# Altium schematic symbol library AQAC_1.SCHLIB: 34 symbols
Pins are listed as number, name and electrical type; pins without a type are passive.

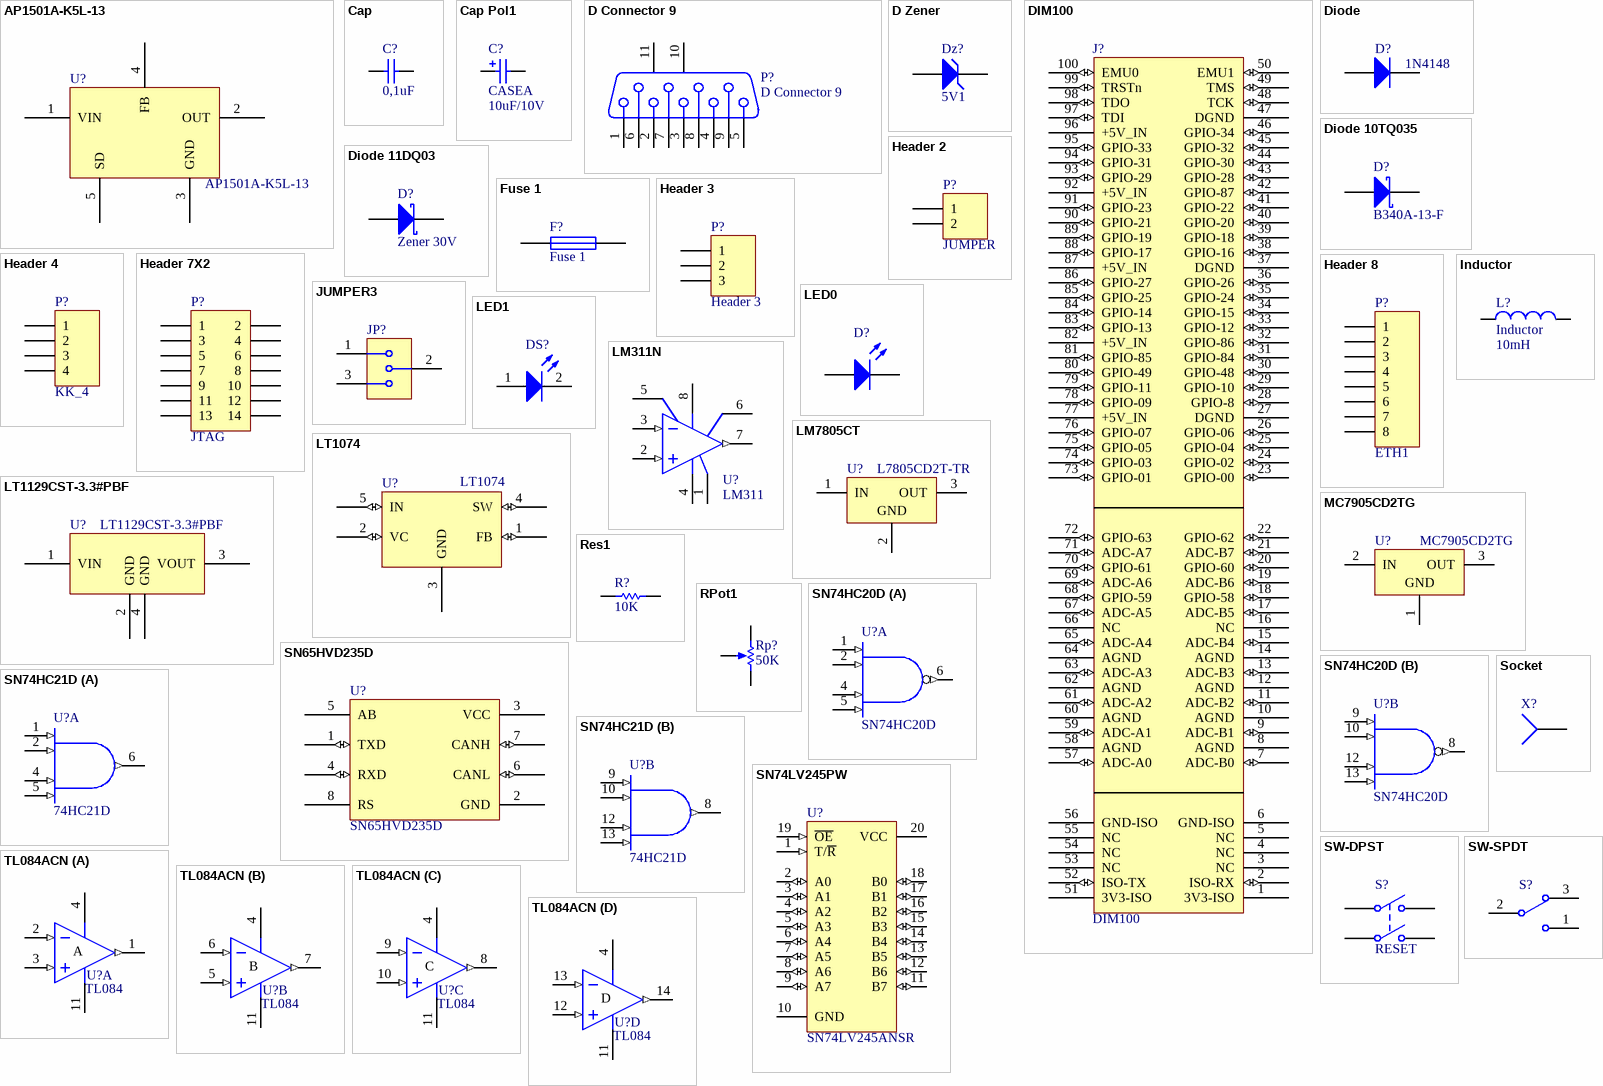
[diagram p0: symbols AP1501A-K5L-13 to TL084ACN]

## AP1501A-K5L-13
designator U?
IC CONV DC-DC 5A ADJ  TO263-5L
footprint TO263-5L
pins: 1 VIN (power), 2 OUT (power), 3 GND (power), 4 FB (power), 5 SD (power)

## Cap
designator C?  value 0,1uF  (hidden comment: Cap)
Capacitor; Published: 8-Jun-2000; LatestRevisionDate: 17-Jul-2002; LatestRevisionNote: Re-released for DXP Platform.; PackageReference: RAD-0.3; Publisher: Altium Limited
footprint RAD-0.3 (Capacitor; 2 Leads)
footprint VP32-3.2 (Capacitor, Ceramic, Thru-Hole, Dipped Radial; Body 5.1 x 3.2 mm (WxT) Pin Spacing 2.54 mm (typ))
footprint VP45-3.2 (Capacitor, Ceramic, Thru-Hole, Dipped Radial; Body 7.8 x 3.2 mm (WxT) Pin Spacing 5.08 mm (typ))
simulation model CAP (Capacitor)
signal-integrity model Cap
footprint RAD-0.1 (Indicating Instrument; 2 Leads)
footprint 0805_W
pins: 1, 2

## Cap Pol1
designator C?, comment CASEA  value 10uF/10V
Polarized Capacitor (Radial); Published: 8-Jun-2000; Revision: July-2002: Re-released for DXP Platform.; Publisher: Altium Limited
simulation model CAP (Capacitor)
signal-integrity model Cap Pol
footprint CASEA
pins: 1, 2

## D Connector 9
designator P?
Receptacle Assembly, 9 Position, Right Angle; PackageDocument: O; Positions: 9; Published: 15-Jun-2001; LatestRevisionDate: 17-Jul-2002; LatestRevisionNote: Re-released for DXP Platform.; DatasheetDocument: 1-Sep-1999; PackageReference: 788750; Publisher: Altium Limited; Orientation: Right Angle; Gender: Receptacle
footprint DSUB1.385-2H9 (Connector; D Subminiature; 9 Position; Right Angle; Pitch 1.385 mm)
signal-integrity model Connector
pins: 1, 2, 3, 4, 5, 6, 7, 8, 9, 10 MH1, 11 MH2

## D Zener
designator Dz?, comment 5V1
Zener Diode; Manufacturer: Generic Components; Class: Discrete; SubClass: Diode - Zener; Published: 08/06/2000; Publisher: Altium Hobart Technology Centre
footprint Diode
simulation model ZENER (Diode)
signal-integrity model D Zener
footprint MINIMELF (Metal Electrode Face (MELF) Diode; Body 3.5 x 1.5 mm (LxDia))
pins: 1 A, 2 K

## DIM100
designator J?
DIMM 1.27MM PITCH 100 CKTS MULTI KEY
footprint DIM_200
pins: 1 3V3-ISO (power), 2 ISO-RX (io), 3 NC, 4 NC, 5 NC, 6 GND-ISO (power), 7 ADC-B0 (io), 8 AGND (power), 9 ADC-B1 (io), 10 AGND (power), 11 ADC-B2 (io), 12 AGND (power), 13 ADC-B3 (io), 14 AGND (power), 15 ADC-B4 (io), 16 NC, 17 ADC-B5 (io), 18 GPIO-58 (io), 19 ADC-B6 (io), 20 GPIO-60 (io), 21 ADC-B7 (io), 22 GPIO-62 (io), 23 GPIO-00 (io), 24 GPIO-02 (io), 25 GPIO-04 (io), 26 GPIO-06 (io), 27 DGND (power), 28 GPIO-8 (io), 29 GPIO-10 (io), 30 GPIO-48 (io), 31 GPIO-84 (io), 32 GPIO-86 (io), 33 GPIO-12 (io), 34 GPIO-15 (io), 35 GPIO-24 (io), 36 GPIO-26 (io), 37 DGND (power), 38 GPIO-16 (io), 39 GPIO-18 (io), 40 GPIO-20 (io), 41 GPIO-22 (io), 42 GPIO-87 (io), 43 GPIO-28 (io), 44 GPIO-30 (io), 45 GPIO-32 (io), 46 GPIO-34 (io), 47 DGND (power), 48 TCK (io), 49 TMS (io), 50 EMU1 (io), 51 3V3-ISO (power), 52 ISO-TX (io), 53 NC, 54 NC, 55 NC, 56 GND-ISO (power), 57 ADC-A0 (io), 58 AGND (power), 59 ADC-A1 (io), 60 AGND (power), 61 ADC-A2 (io), 62 AGND (power), 63 ADC-A3 (io), 64 AGND (power), 65 ADC-A4 (io), 66 NC, 67 ADC-A5 (io), 68 GPIO-59 (io), 69 ADC-A6 (io), 70 GPIO-61 (io), 71 ADC-A7 (io), 72 GPIO-63 (io), 73 GPIO-01 (io), 74 GPIO-03 (io), 75 GPIO-05 (io), 76 GPIO-07 (io), 77 +5V_IN (power), 78 GPIO-09 (io), 79 GPIO-11 (io), 80 GPIO-49 (io), 81 GPIO-85 (io), 82 +5V_IN (power), 83 GPIO-13 (io), 84 GPIO-14 (io), 85 GPIO-25 (io), 86 GPIO-27 (io), 87 +5V_IN (power), 88 GPIO-17 (io), 89 GPIO-19 (io), 90 GPIO-21 (io), 91 GPIO-23 (io), 92 +5V_IN (power), 93 GPIO-29 (io), 94 GPIO-31 (io), 95 GPIO-33 (io), 96 +5V_IN (power), 97 TDI (io), 98 TDO (io), 99 TRSTn (io), 100 EMU0 (io)

## Diode
designator D?, comment 1N4148
Default Diode; Manufacturer: Generic Components; Class: Discrete; SubClass: Diode - Switching; Published: 08/06/2000; Publisher: Altium Hobart Technology Centre
footprint Diode (DO-214AB)
simulation model DIODE (Diode)
signal-integrity model Diode
footprint SOD323 (SOD-323/SC-76; 2 Leads; Body 1.7 x 1.3 mm, (LxW))
footprint Diode
pins: 1 A, 2 K

## Diode 10TQ035
designator D?, comment B340A-13-F
Schottky Rectifier; Note: Terminal 2 is the TAB and is electrically connected to the cathode; Published: 8-Jun-2000; LatestRevisionDate: 17-Jul-2002; LatestRevisionNote: Re-released for DXP Platform.; DatasheetDocument: PD-2.057B; PackageDocument: Feb-1998; PackageReference: TO-220AC; Publisher: Altium Limited; ComponentLink1Description: Manufacturer Link; ComponentLink1URL: http://www.irf.com/; ComponentLink2Description: Datasheet; ComponentLink2URL: http://www.irf.com/product-info/datasheets/data/10tq.pdf
footprint TO-220AC (TO, Thru-Hole, Vertical, Heatsink Mounted; 3 In-Line Leads (1 Absent); Pitch 2.54 mm)
simulation model 10TQ035 (DIODE)
footprint SMB
pins: 1 K, 2 A

## Diode 11DQ03
designator D?, comment Zener 30V
Schottky Rectifier; Published: 8-Jun-2000; LatestRevisionDate: 17-Jul-2002; LatestRevisionNote: Re-released for DXP Platform.; DatasheetVersion: Dec-1997; PackageReference: DO-204AL; Publisher: Altium Limited; Code_JEDEC: DO-204-AL; ComponentLink1Description: Manufacturer Link; ComponentLink1URL: http://www.irf.com/; ComponentLink2Description: Datasheet; ComponentLink2URL: http://www.irf.com/product-info/datasheets/data/11dq03.pdf
footprint DIO10.46-5.3x2.8 (Diode, Axial; Body 5.2 x 2.7 mm (LxDia. max), Lead Dia. 0.86 mm (max))
simulation model 11DQ03 (DIODE)
pins: 1 A, 2 K

## Fuse 1
designator F?
Fuse; Published: 8-Jun-2000; LatestRevisionDate: 17-Jul-2002; LatestRevisionNote: Re-released for DXP Platform.; PackageReference: PIN-W2/E2.8; Publisher: Altium Limited
footprint PIN-W2/E2.8 (Fuse; 2 Leads)
simulation model FUSE (Spice Subcircuit)
pins: 1, 2

## Header 2
designator P?, comment JUMPER
Header, 2-Pin; LatestRevisionDate: 17-Jul-2002; LatestRevisionNote: Re-released for DXP Platform.; Publisher: Altium Limited
footprint HDR1X2 (Connector; Header; 2 Position)
signal-integrity model Connector
pins: 1, 2

## Header 3
designator P?
Header, 3-Pin; LatestRevisionDate: 17-Jul-2002; LatestRevisionNote: Re-released for DXP Platform.; Publisher: Altium Limited
footprint HDR1X3 (Connector; Header; 3 Position)
signal-integrity model Connector
pins: 1, 2, 3

## Header 4
designator P?, comment KK_4
Header, 4-Pin; LatestRevisionDate: 17-Jul-2002; LatestRevisionNote: Re-released for DXP Platform.; Publisher: Altium Limited
footprint HDR1X4 (Connector; Header; 4 Position)
signal-integrity model Connector
footprint KK-4
pins: 1, 2, 3, 4

## Header 7X2
designator P?, comment JTAG
Header, 7-Pin, Dual row; LatestRevisionDate: 17-Jul-2002; LatestRevisionNote: Re-released for DXP Platform.; Publisher: Altium Limited
footprint HDR2X7 (Connector; Header; 7x2 Position)
signal-integrity model Connector
pins: 1, 2, 3, 4, 5, 6, 7, 8, 9, 10, 11, 12, 13, 14

## Header 8
designator P?, comment ETH1
Header, 8-Pin; LatestRevisionDate: 17-Jul-2002; LatestRevisionNote: Re-released for DXP Platform.; Publisher: Altium Limited
footprint HDR1X8 (Connector; Header; 8 Position)
signal-integrity model Connector
footprint ETHERNET_SINGLE
pins: 1, 2, 3, 4, 5, 6, 7, 8

## Inductor
designator L?  value 10mH
Code_IEC: 1005; Published: 8-Jun-2000; LatestRevisionDate: 29-May-2009; LatestRevisionNote: IPC-7351 Footprint Added.; PackageReference: 0402-A; Publisher: Altium Limited; PackageDescription: Chip Inductor; Code_JEITA: 0402
footprint INDC1005AL (Chip Inductor, Body 1.0x0.5mm, IPC High Density)
footprint INDC1608L (Chip Inductor, Body 1.6x0.8mm, IPC High Density)
footprint INDC2012L (Chip Inductor, Body 2.0x1.2mm, IPC High Density)
footprint INDC0603L (Chip Inductor, Body 0.6x0.3mm, IPC High Density)
footprint INDC3216AL (Chip Inductor, Body 3.2x1.6mm, IPC High Density)
footprint INDC4532L (Chip Inductor, Body 4.5x3.2mm, IPC High Density)
simulation model INDUCTOR (Inductor)
signal-integrity model Inductor
pins: 1, 2

## JUMPER3
designator JP?
Conector 3 pinos
footprint PCB JUMPER3 (PCB JUMPER 3 pinos)
footprint HDR1X3 (Connector; Header; 3 Position)
pins: 1 IN1, 2 IN3, 3 IN2

## LED0
designator D?  (value not drawn)
Typical INFRARED GaAs LED; Published: 8-Jun-2000; LatestRevisionDate: 08-Jul-2005; LatestRevisionNote: Mech Layer 1 removed.; PackageReference: LED-0; Publisher: Altium Limited
footprint LED-0 (Typical INFRARED GaAs LED; 2 Leads)
simulation model LED0 (Diode)
footprint LED_0805
pins: 1 A, 2 K

## LED1
designator DS?
Typical RED GaAs LED; Manufacturer: Generic Components; Class: Optoelectronic; Published: 08/06/2000; Publisher: Altium Hobart Technology Centre; SubClass: LED
footprint Led
simulation model LED1 (Diode)
footprint LED_0805
pins: 1 A, 2 K

## LM311N
designator U?, comment LM311
Voltage Comparator; Manufacturer: National Semiconductor; Class: Analog; Published: 15/04/2002; Publisher: Altium Hobart Technology Centre; SubClass: Comparator
footprint DIP-8
pins: 1 GND (power), 2 IN+ (in), 3 IN- (in), 4 V- (power), 5 BAL, 6 BAL/STB, 7 OUT (out), 8 V+ (power)

## LM7805CT
designator U?, comment L7805CD2T-TR
Series 3-Terminal Positive Regulator; PackageDocument: 1995; Note: Tab is connected to GND; Published: 15-Apr-2002; DatasheetDocument: May-1999; PackageReference: T03B; Publisher: Altium Limited; ComponentLink1Description: Manufacturer Link; ComponentLink1URL: http://www.national.com/; ComponentLink2Description: Datasheet; ComponentLink2URL: http://www.national.com/ds.cgi/LM/LM7512C.pdf; ComponentLink3Description: URL Link1; ComponentLink3URL: http://www.national.com/pf/LM/LM7805C.html
footprint T03B (TO, Thru-Hole, Vertical, Heatsink Mounted; 3 In-Line Leads; Pitch 2.54 mm)
footprint TO254P1510-3_4M (D2-PAK, 4-Leads, Body 8.8x10.4mm, Pitch 2.54mm, Lead Span 15.1mm, IPC Low Density)
pins: 1 IN (power), 2 GND (power), 3 OUT (power)

## LT1074
designator U?
Regulador Chaveado Step-Down LT1074HVCT; Fabricante: LINEAR
footprint LT1074
footprint LT1074_I
footprint LT1074CT#PBF
pins: 1 FB (io), 2 VC (io), 3 GND (power), 4 SW (io), 5 IN (io)

## LT1129CST-3.3#PBF
designator U?
IC LDO REG W/SD 3.3V SOT223-3
footprint SOT223
pins: 1 VIN (power), 2 GND (power), 3 VOUT (power), 4 GND (power)

## MC7905CD2TG
designator U?
IC REG NEG VOLT 1A 5V D2PAK
footprint TO254P1510-3_4M (D2-PAK, 4-Leads, Body 8.8x10.4mm, Pitch 2.54mm, Lead Span 15.1mm, IPC Low Density)
pins: 1 GND (power), 2 IN (power), 3 OUT (power)

## Res1
designator R?  value 10K
Resistor; Manufacturer: Generic Components; Class: Passive; Published: 08/06/2000; Publisher: Altium Hobart Technology Centre; SubClass: Resistor
footprint AXIAL-0.3
simulation model RESISTOR (Resistor)
signal-integrity model Res1
footprint 0805_W
pins: 1, 2

## RPot1
designator Rp?  value 50K
Potenciometro; Manufacturer: Generic Components; Class: Passive; SubClass: Potentiometer; Set Position: 0.5; Published: 08/06/2000; Publisher: Altium Hobart Technology Centre
footprint VR5 (Potenciometro)
pins: 1 TOP, 2 TAP, 3 BOT

## SN65HVD235D
designator U?
296-15229-5-ND
footprint SOP8_B3.9
pins: 1 TXD (io), 2 GND (power), 3 VCC (power), 4 RXD (io), 5 AB (power), 6 CANL (io), 7 CANH (io), 8 RS (power)

## SN74HC20D
designator U?
Dual 4-Input Positive-NAND Gate; Note: Pins 3 and 11 are not connected and not drawn; Published: 8-Jun-2000; LatestRevisionDate: 13-Apr-2006; LatestRevisionNote: IPC-7351 Footprint Added.; DatasheetVersion: May-1997; PackageVersion: Jan-1998; PackageReference: D014; Publisher: Altium Limited; PackageDescription: 14-Pin Small Outline Integrated Circuit 1.27 mm Pitch; Code_IPC: SOIC127P600-14; ComponentLink1Description: Manufacturer Link; ComponentLink1URL: http://www.ti.com/; ComponentLink2Description: Datasheet; ComponentLink2URL: http://www-s.ti.com/sc/ds/sn74hc20.pdf
footprint D014_N (SOIC, 14-Leads, Body 8.7x3.9mm, Pitch 1.27mm, IPC Medium Density)
footprint D014_L (SOIC, 14-Leads, Body 8.7x3.9mm, Pitch 1.27mm, IPC High Density)
footprint D014_M (SOIC, 14-Leads, Body 8.7x3.9mm, Pitch 1.27mm, IPC Low Density)
3D model D014 (14-Pin Small Outline Integrated Circuit 1.27 mm Pitch)
signal-integrity model SN74HC20D
footprint SOP14_B3.9
pins on every part: 7 GND (power) hidden to GND, 14 VCC (power) hidden to VCC
part A pins: 1 A (in), 2 B (in), 4 C (in), 5 D (in), 6 Y (out)
part B pins: 8 Y (out), 9 A (in), 10 B (in), 12 C (in), 13 D (in)

## SN74HC21D
designator U?, comment 74HC21D
Dual 4-Input Positive-AND Gate; Note: Pins 3 and 11 are not connected and not drawn; Published: 8-Jun-2000; LatestRevisionDate: 13-Apr-2006; LatestRevisionNote: IPC-7351 Footprint Added.; DatasheetVersion: May-1997; PackageVersion: Jan-1998; PackageReference: D014; Publisher: Altium Limited; PackageDescription: 14-Pin Small Outline Integrated Circuit 1.27 mm Pitch; Code_IPC: SOIC127P600-14; ComponentLink1Description: Manufacturer Link; ComponentLink1URL: http://www.ti.com/; ComponentLink2Description: Datasheet; ComponentLink2URL: http://www-s.ti.com/sc/ds/SN74HC21.pdf
footprint D014_N (SOIC, 14-Leads, Body 8.7x3.9mm, Pitch 1.27mm, IPC Medium Density)
footprint D014_L (SOIC, 14-Leads, Body 8.7x3.9mm, Pitch 1.27mm, IPC High Density)
footprint D014_M (SOIC, 14-Leads, Body 8.7x3.9mm, Pitch 1.27mm, IPC Low Density)
3D model D014 (14-Pin Small Outline Integrated Circuit 1.27 mm Pitch)
signal-integrity model SN74HC21D
footprint SOP14_B3.9
pins on every part: 7 GND (power) hidden to GND, 14 VCC (power) hidden to VCC
part A pins: 1 A (in), 2 B (in), 4 C (in), 5 D (in), 6 Y (out)
part B pins: 8 Y (out), 9 A (in), 10 B (in), 12 C (in), 13 D (in)

## SN74LV245PW
designator U?, comment SN74LV245ANSR
Octal Bus Transceiver with 3-State Outputs; Published: 8-Jun-2000; LatestRevisionDate: 04-Mar-2005; LatestRevisionNote: Stylized 3D Model Added.; DatasheetVersion: Apr-1996; PackageVersion: Feb-1999; PackageReference: PW020; Publisher: Altium Limited; PackageDescription: Shrink Small Outline; 20 Leads; Body Width 4.4 mm; Pitch 0.65 mm; ComponentLink1Description: Manufacturer Link; ComponentLink1URL: http://www.ti.com/; ComponentLink2Description: Datasheet; ComponentLink2URL: http://www-s.ti.com/sc/ds/sn74lv245.pdf
footprint PW020 (Shrink Small Outline; 20 Leads; Body Width 4.4 mm; Pitch 0.65 mm)
3D model PW020 (Shrink Small Outline; 20 Leads; Body Width 4.4 mm; Pitch 0.65 mm)
signal-integrity model SN74LV245PW
footprint SN74LV245ANSR
pins: 1 T/~{R} (in), 2 A0 (io), 3 A1 (io), 4 A2 (io), 5 A3 (io), 6 A4 (io), 7 A5 (io), 8 A6 (io), 9 A7 (io), 10 GND (power), 11 B7 (io), 12 B6 (io), 13 B5 (io), 14 B4 (io), 15 B3 (io), 16 B2 (io), 17 B1 (io), 18 B0 (io), 19 ~{OE} (in), 20 VCC (power)

## Socket
designator X?
Socket; Manufacturer: Generic Components; Class: Connector
footprint Socket
signal-integrity model Connector
pins: 1

## SW-DPST
designator S?, comment RESET
Double-Pole, Single-Throw Switch; Published: 24-Mar-1999; LatestRevisionDate: 17-Jul-2002; LatestRevisionNote: Re-released for DXP Platform.; PackageReference: DPST-4; Publisher: Altium Limited
footprint DPST-4 (Double-Pole, Single-Throw Switch; 4 Leads)
footprint CHAVE_PB
pins: 1 COMMON1, 2 NO1, 3 COMMON2, 4 NO2

## SW-SPDT
designator S?
SPDT Subminiature Toggle Switch, Right Angle Mounting, Vertical Actuation; Published: 24-Mar-1999; LatestRevisionDate: 17-Dec-2003; LatestRevisionNote: Schematic revised, PCB Footprint replaced.; DatasheetVersion: 05-Dec-2000; PackageReference: TL36WW15050; Publisher: Altium Limited; ComponentLink1Description: Manufacturer Link; ComponentLink1URL: http://www.apem.com
footprint TL36WW15050 (SPDT Subminiature Toggle Switch, Right Angle Mounting, Vertical Actuation)
footprint MHS123K
pins: 1, 2, 3

## TL084ACN
designator U?, comment TL084
General-Purpose J-FET Quad Operational Amplifier; Manufacturer: ST-Microelectronics; Published: 24/08/2001; Publisher: Altium Hobart Technology Centre; Class: Amplifier; SubClass: Operational Amplifier
footprint DIP-14
simulation model TL084 (SUBCKT)
footprint SOP14_B3.9
pins on every part: 4 V+ (power), 11 V- (power)
part A pins: 1 OUT (out), 2 IN- (in), 3 IN+ (in)
part B pins: 5 IN+ (in), 6 IN- (in), 7 OUT (out)
part C pins: 8 OUT (out), 9 IN- (in), 10 IN+ (in)
part D pins: 12 IN+ (in), 13 IN- (in), 14 OUT (out)
part A text: A
part B text: B
part C text: C
part D text: D